# Altium schematic symbol library 50A02CH.Schlib: 1 symbol
Pins are listed as number, name and electrical type; pins without a type are passive.

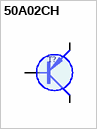
[diagram p0: symbol 50A02CH]

## 50A02CH
designator T?
SOT23     50V 0.5A 690MHz 3.8p (10V) (50C02CH)
pins: 1 B, 2 E (oe), 3 C (oc)
1 alternate drawing of the same symbol